# Altium footprint library EL-TCaseD2917(7343-31).PcbLib: 1 footprints
Each footprint in its own frame and in the unit in brackets; x right, y up, seen from the top. Pads: shape width x height; smd on the part's side, far side on the other; paste and mask are expansions set on the pad; w line width, h text height; cw(c..) or ccw(c..) is an arc to the next point about the centre after c.
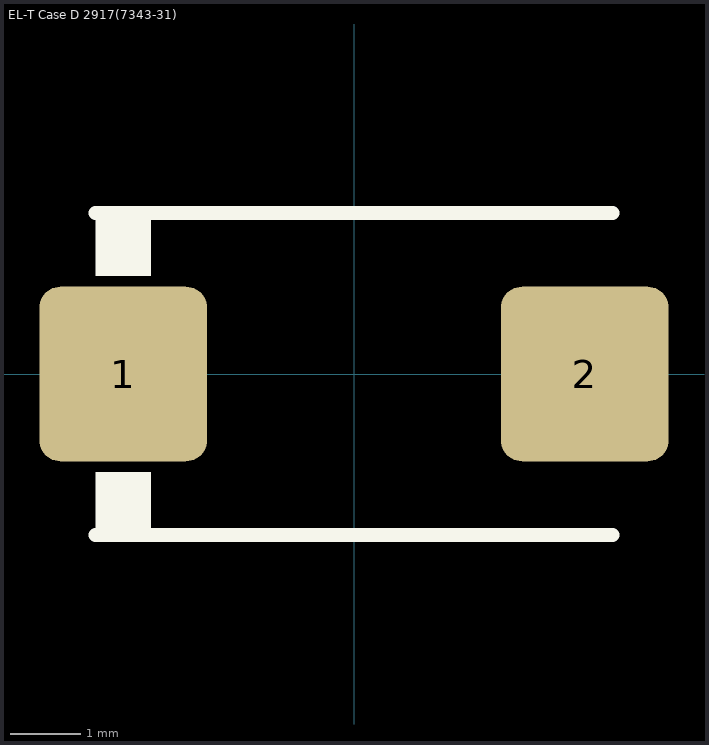
[diagram p0: the footprint, top view; thin cyan lines are the x and y axes]

## EL-T Case D 2917(7343-31) [mm] "Capacitor, SM Tantalum; Body 7.3 x 3.1 mm (LxW typ)"
height 3.1
pads (2):
  rrect25% 2.4x2.5 smd: 1(-3.3,0) 2(3.3,0)
Top Overlay:
  rectangle: -3.7,1.4 -2.9,2.2
  rectangle: -3.7,-2.2 -2.9,-1.4
  lines w0.2: -3.7,-2.3 3.7,-2.3 ; -3.7,2.3 3.7,2.3
3D body "EL-T SMD Case D 2917(7343-3.1).STEP": height 2.81, standoff 0, extent -3.647,-2.15 3.647,2.15